# EAGLE library part PMIC_EA3036CQBR (library !GPLIB_ACTIVE)
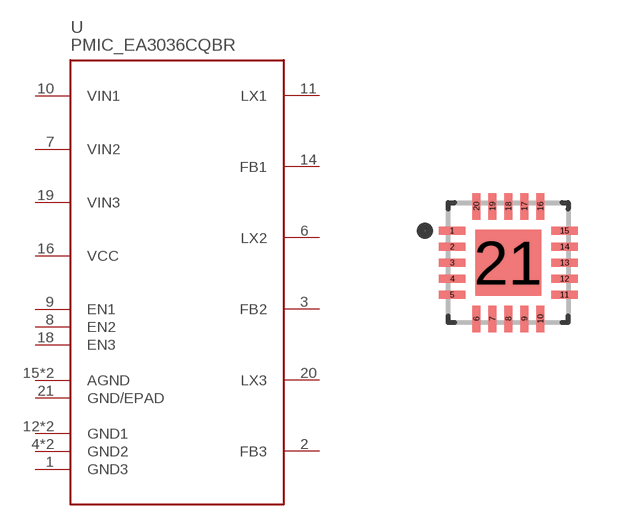
[diagram p59: symbol with the pads of QFN40P300X300X85-21N; footprint QFN40P300X300X85-21N]

Designator prefix U

## PMIC_EA3036CQBR  [QFN40P300X300X85-21N]
1  GND3  pwr
2  FB3  pwr
3  FB2  pwr
4  GND2  pwr
5  GND2  pwr
6  LX2  pwr
7  VIN2  pwr
8  EN2  pwr
9  EN1  pwr
10  VIN1  pwr
11  LX1  pwr
12  GND1  pwr
13  GND1  pwr
14  FB1  pwr
15  AGND  pwr
16  VCC  pwr
17  AGND  pwr
18  EN3  pwr
19  VIN3  pwr
20  LX3  pwr
21  GND/EPAD  pwr

## Footprint QFN40P300X300X85-21N (pad centres in mm)
smd 0.665 x 0.2: 1 -1.407,0.8; 2 -1.407,0.4; 3 -1.407,0; 4 -1.407,-0.4; 5 -1.407,-0.8; 11 1.407,-0.8; 12 1.407,-0.4; 13 1.407,0; 14 1.407,0.4; 15 1.407,0.8
smd 0.2 x 0.665: 6 -0.8,-1.407; 7 -0.4,-1.407; 8 0,-1.407; 9 0.4,-1.407; 10 0.8,-1.407; 16 0.8,1.407; 17 0.4,1.407; 18 0,1.407; 19 -0.4,1.407; 20 -0.8,1.407
smd 1.65 x 1.65: 21 0,0